# EAGLE library part HEADER-9 (library homemade-hardware)
NPTC081KFXC-RC <https://www.digikey.com/product-detail/en/sullins-connector-solutions/NPTC081KFXC-RC/S5600-ND/776058>: Vertical Female SMD Headers TSM-110-01-T-SV <https://www.digikey.com/product-detail/en/samtec-inc/TSM-110-01-T-SV/SAM12267-ND/6691889>: Vertical Male SMD Headers M20-8890845 <https://www.digikey.com/products/en?keywords=952-3236-ND>: Horizontal Male SMD Headers M20-7910842R <https://www.digikey.com/product-detail/en/harwin-inc/M20-7910842R/952-3200-6-ND/6559341>: Horizontal Female SMD Headers
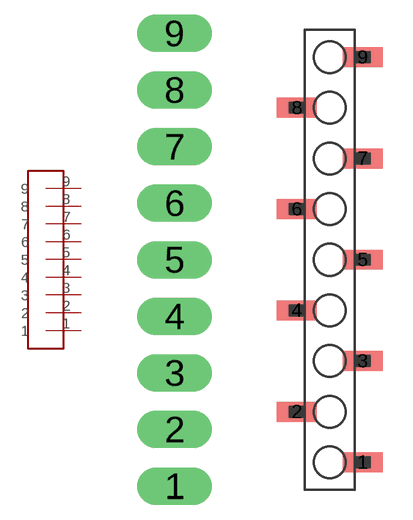
[diagram p3: symbol with the pads of HEADER-9-DIP; footprints HEADER-9-DIP, HEADER-9-VERTICAL]

Designator prefix -

## HEADER-9-DIP  [HEADER-9-DIP]
1  1
2  2
3  3
4  4
5  5
6  6
7  7
8  8
9  9

## HEADER-9-VERTICAL  [HEADER-9-VERTICAL]
Pads as for HEADER-9-DIP

## HEADER-9-HORIZONTAL  [HEADER-9-HORIZONTAL]
Pads as for HEADER-9-DIP

## Footprint HEADER-9-DIP (pad centres in mm)
drill 1.016 pad 1.676 long: 1 0,0; 2 0,2.54; 3 0,5.08; 4 0,7.62; 5 0,10.16; 6 0,12.7; 7 0,15.24; 8 0,17.78; 9 0,20.32

## Footprint HEADER-9-VERTICAL (pad centres in mm)
smd 2 x 1: 1 1.65,0; 2 -1.65,2.54; 3 1.65,5.08; 4 -1.65,7.62; 5 1.65,10.16; 6 -1.65,12.7; 7 1.65,15.24; 8 -1.65,17.78; 9 1.65,20.32

## Footprint HEADER-9-HORIZONTAL (pad centres in mm)
smd 3 x 1: 1 0,0; 2 0,2.54; 3 0,5.08; 4 0,7.62; 5 0,10.16; 6 0,12.7; 7 0,15.24; 8 0,17.78; 9 0,20.32